# Altium schematic symbol library CMM-3729AT-42316-TR.SchLib: 1 symbol
Pins are listed as number, name and electrical type; pins without a type are passive.

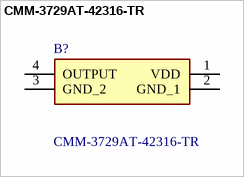
[diagram p0: symbol CMM-3729AT-42316-TR]

## CMM-3729AT-42316-TR
designator B?
3.76 x 2.24 mm, Analog, Top Port, Surface Mount, 2.0 Vdc, -42 ??3 dB, MEMS Microphone; Manufacturer_Name: Same Sky; Geometry.Height: 1.2mm; Mouser Part Number: 490-CMM3729AT42316TR; Mouser Price/Stock: https://www.mouser.co.uk/ProductDetail/CUI-Devices/CMM-3729AT-42316-TR?qs=PqoDHHvF648Z0lNkUbFxwQ%3D%3D; Manufacturer_Part_Number: CMM-3729AT-42316-TR; Datasheet Link: https://www.sameskydevices.com/product/resource/cmm-3729at-42316-tr.pdf
footprint CMM3729AT42316TR
pins: 1 VDD, 2 GND_1, 3 GND_2, 4 OUTPUT